# EAGLE library part FDG6316P (library transistor-fet)
P-Channel MOSFET 1.8V Specified PowerTrench
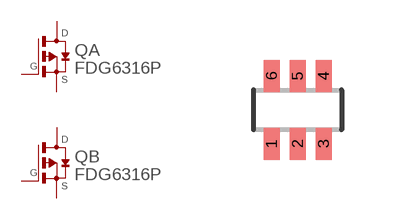
[diagram p8: symbol with the pads of SC70-6L; footprint SC70-6L]

Designator prefix Q; gates A=EMOS-PD B=EMOS-PD

## FDG6316P (P1I: o)  [SC70-6L]
1  A:S  pas
2  A:G  pas
3  A:D  pas
4  B:S  pas
5  B:G  pas
6  B:D  pas

## Footprint SC70-6L (pad centres in mm)
SC-70 Package
smd 0.4 x 0.8: 1 -0.65,-0.85; 2 0,-0.85; 3 0.65,-0.85; 4 0.65,0.85; 5 0,0.85; 6 -0.65,0.85